# Altium schematic symbol library MK60FN1M0VLQ12.Schlib: 1 symbol
Pins are listed as number, name and electrical type; pins without a type are passive.

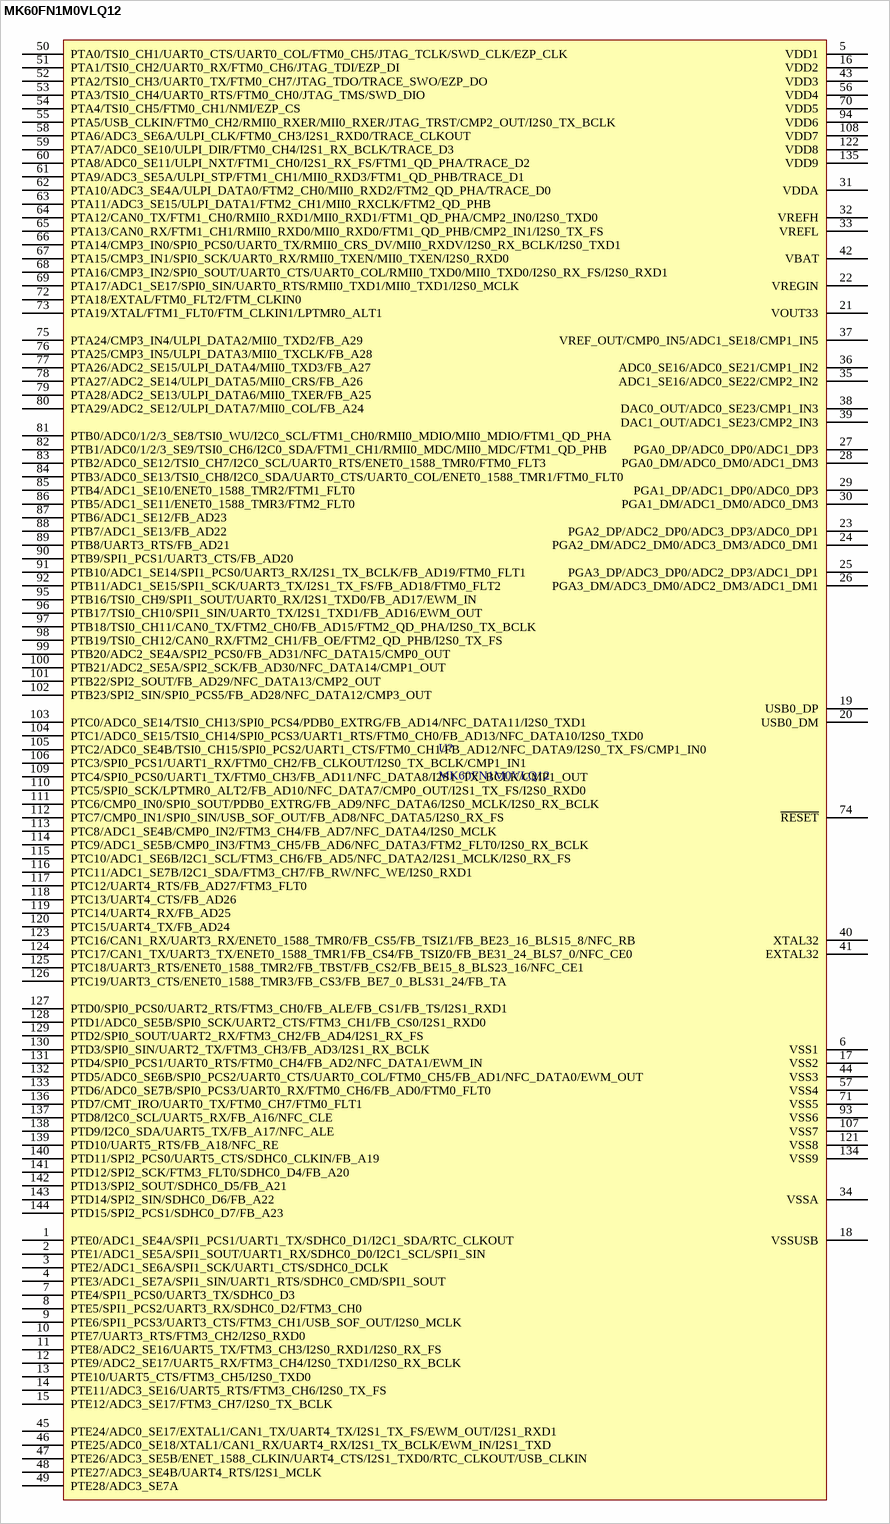
[diagram p0: symbol MK60FN1M0VLQ12]

## MK60FN1M0VLQ12
designator U?
pins: 1 PTE0/ADC1_SE4A/SPI1_PCS1/UART1_TX/SDHC0_D1/I2C1_SDA/RTC_CLKOUT, 2 PTE1/ADC1_SE5A/SPI1_SOUT/UART1_RX/SDHC0_D0/I2C1_SCL/SPI1_SIN, 3 PTE2/ADC1_SE6A/SPI1_SCK/UART1_CTS/SDHC0_DCLK, 4 PTE3/ADC1_SE7A/SPI1_SIN/UART1_RTS/SDHC0_CMD/SPI1_SOUT, 5 VDD1, 6 VSS1, 7 PTE4/SPI1_PCS0/UART3_TX/SDHC0_D3, 8 PTE5/SPI1_PCS2/UART3_RX/SDHC0_D2/FTM3_CH0, 9 PTE6/SPI1_PCS3/UART3_CTS/FTM3_CH1/USB_SOF_OUT/I2S0_MCLK, 10 PTE7/UART3_RTS/FTM3_CH2/I2S0_RXD0, 11 PTE8/ADC2_SE16/UART5_TX/FTM3_CH3/I2S0_RXD1/I2S0_RX_FS, 12 PTE9/ADC2_SE17/UART5_RX/FTM3_CH4/I2S0_TXD1/I2S0_RX_BCLK, 13 PTE10/UART5_CTS/FTM3_CH5/I2S0_TXD0, 14 PTE11/ADC3_SE16/UART5_RTS/FTM3_CH6/I2S0_TX_FS, 15 PTE12/ADC3_SE17/FTM3_CH7/I2S0_TX_BCLK, 16 VDD2, 17 VSS2, 18 VSSUSB, 19 USB0_DP, 20 USB0_DM, 21 VOUT33, 22 VREGIN, 23 PGA2_DP/ADC2_DP0/ADC3_DP3/ADC0_DP1, 24 PGA2_DM/ADC2_DM0/ADC3_DM3/ADC0_DM1, 25 PGA3_DP/ADC3_DP0/ADC2_DP3/ADC1_DP1, 26 PGA3_DM/ADC3_DM0/ADC2_DM3/ADC1_DM1, 27 PGA0_DP/ADC0_DP0/ADC1_DP3, 28 PGA0_DM/ADC0_DM0/ADC1_DM3, 29 PGA1_DP/ADC1_DP0/ADC0_DP3, 30 PGA1_DM/ADC1_DM0/ADC0_DM3, 31 VDDA, 32 VREFH, 33 VREFL, 34 VSSA, 35 ADC1_SE16/ADC0_SE22/CMP2_IN2, 36 ADC0_SE16/ADC0_SE21/CMP1_IN2, 37 VREF_OUT/CMP0_IN5/ADC1_SE18/CMP1_IN5, 38 DAC0_OUT/ADC0_SE23/CMP1_IN3, 39 DAC1_OUT/ADC1_SE23/CMP2_IN3, 40 XTAL32, 41 EXTAL32, 42 VBAT, 43 VDD3, 44 VSS3, 45 PTE24/ADC0_SE17/EXTAL1/CAN1_TX/UART4_TX/I2S1_TX_FS/EWM_OUT/I2S1_RXD1, 46 PTE25/ADC0_SE18/XTAL1/CAN1_RX/UART4_RX/I2S1_TX_BCLK/EWM_IN/I2S1_TXD, 47 PTE26/ADC3_SE5B/ENET_1588_CLKIN/UART4_CTS/I2S1_TXD0/RTC_CLKOUT/USB_CLKIN, 48 PTE27/ADC3_SE4B/UART4_RTS/I2S1_MCLK, 49 PTE28/ADC3_SE7A, 50 PTA0/TSI0_CH1/UART0_CTS/UART0_COL/FTM0_CH5/JTAG_TCLK/SWD_CLK/EZP_CLK, 51 PTA1/TSI0_CH2/UART0_RX/FTM0_CH6/JTAG_TDI/EZP_DI, 52 PTA2/TSI0_CH3/UART0_TX/FTM0_CH7/JTAG_TDO/TRACE_SWO/EZP_DO, 53 PTA3/TSI0_CH4/UART0_RTS/FTM0_CH0/JTAG_TMS/SWD_DIO, 54 PTA4/TSI0_CH5/FTM0_CH1/NMI/EZP_CS, 55 PTA5/USB_CLKIN/FTM0_CH2/RMII0_RXER/MII0_RXER/JTAG_TRST/CMP2_OUT/I2S0_TX_BCLK, 56 VDD4, 57 VSS4, 58 PTA6/ADC3_SE6A/ULPI_CLK/FTM0_CH3/I2S1_RXD0/TRACE_CLKOUT, 59 PTA7/ADC0_SE10/ULPI_DIR/FTM0_CH4/I2S1_RX_BCLK/TRACE_D3, 60 PTA8/ADC0_SE11/ULPI_NXT/FTM1_CH0/I2S1_RX_FS/FTM1_QD_PHA/TRACE_D2, 61 PTA9/ADC3_SE5A/ULPI_STP/FTM1_CH1/MII0_RXD3/FTM1_QD_PHB/TRACE_D1, 62 PTA10/ADC3_SE4A/ULPI_DATA0/FTM2_CH0/MII0_RXD2/FTM2_QD_PHA/TRACE_D0, 63 PTA11/ADC3_SE15/ULPI_DATA1/FTM2_CH1/MII0_RXCLK/FTM2_QD_PHB, 64 PTA12/CAN0_TX/FTM1_CH0/RMII0_RXD1/MII0_RXD1/FTM1_QD_PHA/CMP2_IN0/I2S0_TXD0, 65 PTA13/CAN0_RX/FTM1_CH1/RMII0_RXD0/MII0_RXD0/FTM1_QD_PHB/CMP2_IN1/I2S0_TX_FS, 66 PTA14/CMP3_IN0/SPI0_PCS0/UART0_TX/RMII0_CRS_DV/MII0_RXDV/I2S0_RX_BCLK/I2S0_TXD1, 67 PTA15/CMP3_IN1/SPI0_SCK/UART0_RX/RMII0_TXEN/MII0_TXEN/I2S0_RXD0, 68 PTA16/CMP3_IN2/SPI0_SOUT/UART0_CTS/UART0_COL/RMII0_TXD0/MII0_TXD0/I2S0_RX_FS/I2S0_RXD1, 69 PTA17/ADC1_SE17/SPI0_SIN/UART0_RTS/RMII0_TXD1/MII0_TXD1/I2S0_MCLK, 70 VDD5, 71 VSS5, 72 PTA18/EXTAL/FTM0_FLT2/FTM_CLKIN0, 73 PTA19/XTAL/FTM1_FLT0/FTM_CLKIN1/LPTMR0_ALT1, 74 ~{RESET}, 75 PTA24/CMP3_IN4/ULPI_DATA2/MII0_TXD2/FB_A29, 76 PTA25/CMP3_IN5/ULPI_DATA3/MII0_TXCLK/FB_A28, 77 PTA26/ADC2_SE15/ULPI_DATA4/MII0_TXD3/FB_A27, 78 PTA27/ADC2_SE14/ULPI_DATA5/MII0_CRS/FB_A26, 79 PTA28/ADC2_SE13/ULPI_DATA6/MII0_TXER/FB_A25, 80 PTA29/ADC2_SE12/ULPI_DATA7/MII0_COL/FB_A24, 81 PTB0/ADC0/1/2/3_SE8/TSI0_WU/I2C0_SCL/FTM1_CH0/RMII0_MDIO/MII0_MDIO/FTM1_QD_PHA, 82 PTB1/ADC0/1/2/3_SE9/TSI0_CH6/I2C0_SDA/FTM1_CH1/RMII0_MDC/MII0_MDC/FTM1_QD_PHB, 83 PTB2/ADC0_SE12/TSI0_CH7/I2C0_SCL/UART0_RTS/ENET0_1588_TMR0/FTM0_FLT3, 84 PTB3/ADC0_SE13/TSI0_CH8/I2C0_SDA/UART0_CTS/UART0_COL/ENET0_1588_TMR1/FTM0_FLT0, 85 PTB4/ADC1_SE10/ENET0_1588_TMR2/FTM1_FLT0, 86 PTB5/ADC1_SE11/ENET0_1588_TMR3/FTM2_FLT0, 87 PTB6/ADC1_SE12/FB_AD23, 88 PTB7/ADC1_SE13/FB_AD22, 89 PTB8/UART3_RTS/FB_AD21, 90 PTB9/SPI1_PCS1/UART3_CTS/FB_AD20, 91 PTB10/ADC1_SE14/SPI1_PCS0/UART3_RX/I2S1_TX_BCLK/FB_AD19/FTM0_FLT1, 92 PTB11/ADC1_SE15/SPI1_SCK/UART3_TX/I2S1_TX_FS/FB_AD18/FTM0_FLT2, 93 VSS6, 94 VDD6, 95 PTB16/TSI0_CH9/SPI1_SOUT/UART0_RX/I2S1_TXD0/FB_AD17/EWM_IN, 96 PTB17/TSI0_CH10/SPI1_SIN/UART0_TX/I2S1_TXD1/FB_AD16/EWM_OUT, 97 PTB18/TSI0_CH11/CAN0_TX/FTM2_CH0/FB_AD15/FTM2_QD_PHA/I2S0_TX_BCLK, 98 PTB19/TSI0_CH12/CAN0_RX/FTM2_CH1/FB_OE/FTM2_QD_PHB/I2S0_TX_FS, 99 PTB20/ADC2_SE4A/SPI2_PCS0/FB_AD31/NFC_DATA15/CMP0_OUT, 100 PTB21/ADC2_SE5A/SPI2_SCK/FB_AD30/NFC_DATA14/CMP1_OUT, 101 PTB22/SPI2_SOUT/FB_AD29/NFC_DATA13/CMP2_OUT, 102 PTB23/SPI2_SIN/SPI0_PCS5/FB_AD28/NFC_DATA12/CMP3_OUT, 103 PTC0/ADC0_SE14/TSI0_CH13/SPI0_PCS4/PDB0_EXTRG/FB_AD14/NFC_DATA11/I2S0_TXD1, 104 PTC1/ADC0_SE15/TSI0_CH14/SPI0_PCS3/UART1_RTS/FTM0_CH0/FB_AD13/NFC_DATA10/I2S0_TXD0, 105 PTC2/ADC0_SE4B/TSI0_CH15/SPI0_PCS2/UART1_CTS/FTM0_CH1/FB_AD12/NFC_DATA9/I2S0_TX_FS/CMP1_IN0, 106 PTC3/SPI0_PCS1/UART1_RX/FTM0_CH2/FB_CLKOUT/I2S0_TX_BCLK/CMP1_IN1, 107 VSS7, 108 VDD7, 109 PTC4/SPI0_PCS0/UART1_TX/FTM0_CH3/FB_AD11/NFC_DATA8/I2S1_TX_BCLK/CMP1_OUT, 110 PTC5/SPI0_SCK/LPTMR0_ALT2/FB_AD10/NFC_DATA7/CMP0_OUT/I2S1_TX_FS/I2S0_RXD0, 111 PTC6/CMP0_IN0/SPI0_SOUT/PDB0_EXTRG/FB_AD9/NFC_DATA6/I2S0_MCLK/I2S0_RX_BCLK, 112 PTC7/CMP0_IN1/SPI0_SIN/USB_SOF_OUT/FB_AD8/NFC_DATA5/I2S0_RX_FS, 113 PTC8/ADC1_SE4B/CMP0_IN2/FTM3_CH4/FB_AD7/NFC_DATA4/I2S0_MCLK, 114 PTC9/ADC1_SE5B/CMP0_IN3/FTM3_CH5/FB_AD6/NFC_DATA3/FTM2_FLT0/I2S0_RX_BCLK, 115 PTC10/ADC1_SE6B/I2C1_SCL/FTM3_CH6/FB_AD5/NFC_DATA2/I2S1_MCLK/I2S0_RX_FS, 116 PTC11/ADC1_SE7B/I2C1_SDA/FTM3_CH7/FB_RW/NFC_WE/I2S0_RXD1, 117 PTC12/UART4_RTS/FB_AD27/FTM3_FLT0, 118 PTC13/UART4_CTS/FB_AD26, 119 PTC14/UART4_RX/FB_AD25, 120 PTC15/UART4_TX/FB_AD24, 121 VSS8, 122 VDD8, 123 PTC16/CAN1_RX/UART3_RX/ENET0_1588_TMR0/FB_CS5/FB_TSIZ1/FB_BE23_16_BLS15_8/NFC_RB, 124 PTC17/CAN1_TX/UART3_TX/ENET0_1588_TMR1/FB_CS4/FB_TSIZ0/FB_BE31_24_BLS7_0/NFC_CE0, 125 PTC18/UART3_RTS/ENET0_1588_TMR2/FB_TBST/FB_CS2/FB_BE15_8_BLS23_16/NFC_CE1, 126 PTC19/UART3_CTS/ENET0_1588_TMR3/FB_CS3/FB_BE7_0_BLS31_24/FB_TA, 127 PTD0/SPI0_PCS0/UART2_RTS/FTM3_CH0/FB_ALE/FB_CS1/FB_TS/I2S1_RXD1, 128 PTD1/ADC0_SE5B/SPI0_SCK/UART2_CTS/FTM3_CH1/FB_CS0/I2S1_RXD0, 129 PTD2/SPI0_SOUT/UART2_RX/FTM3_CH2/FB_AD4/I2S1_RX_FS, 130 PTD3/SPI0_SIN/UART2_TX/FTM3_CH3/FB_AD3/I2S1_RX_BCLK, 131 PTD4/SPI0_PCS1/UART0_RTS/FTM0_CH4/FB_AD2/NFC_DATA1/EWM_IN, 132 PTD5/ADC0_SE6B/SPI0_PCS2/UART0_CTS/UART0_COL/FTM0_CH5/FB_AD1/NFC_DATA0/EWM_OUT, 133 PTD6/ADC0_SE7B/SPI0_PCS3/UART0_RX/FTM0_CH6/FB_AD0/FTM0_FLT0, 134 VSS9, 135 VDD9, 136 PTD7/CMT_IRO/UART0_TX/FTM0_CH7/FTM0_FLT1, 137 PTD8/I2C0_SCL/UART5_RX/FB_A16/NFC_CLE, 138 PTD9/I2C0_SDA/UART5_TX/FB_A17/NFC_ALE, 139 PTD10/UART5_RTS/FB_A18/NFC_RE, 140 PTD11/SPI2_PCS0/UART5_CTS/SDHC0_CLKIN/FB_A19, 141 PTD12/SPI2_SCK/FTM3_FLT0/SDHC0_D4/FB_A20, 142 PTD13/SPI2_SOUT/SDHC0_D5/FB_A21, 143 PTD14/SPI2_SIN/SDHC0_D6/FB_A22, 144 PTD15/SPI2_PCS1/SDHC0_D7/FB_A23